# Altium footprint library Seeed-Connector.PCBLIB: 44 footprints (part 3 of 3)
Each footprint in its own frame and in the unit in brackets; x right, y up, seen from the top. Pads: shape width x height; smd on the part's side, far side on the other; paste and mask are expansions set on the pad; w line width, h text height; cw(c..) or ccw(c..) is an arc to the next point about the centre after c.
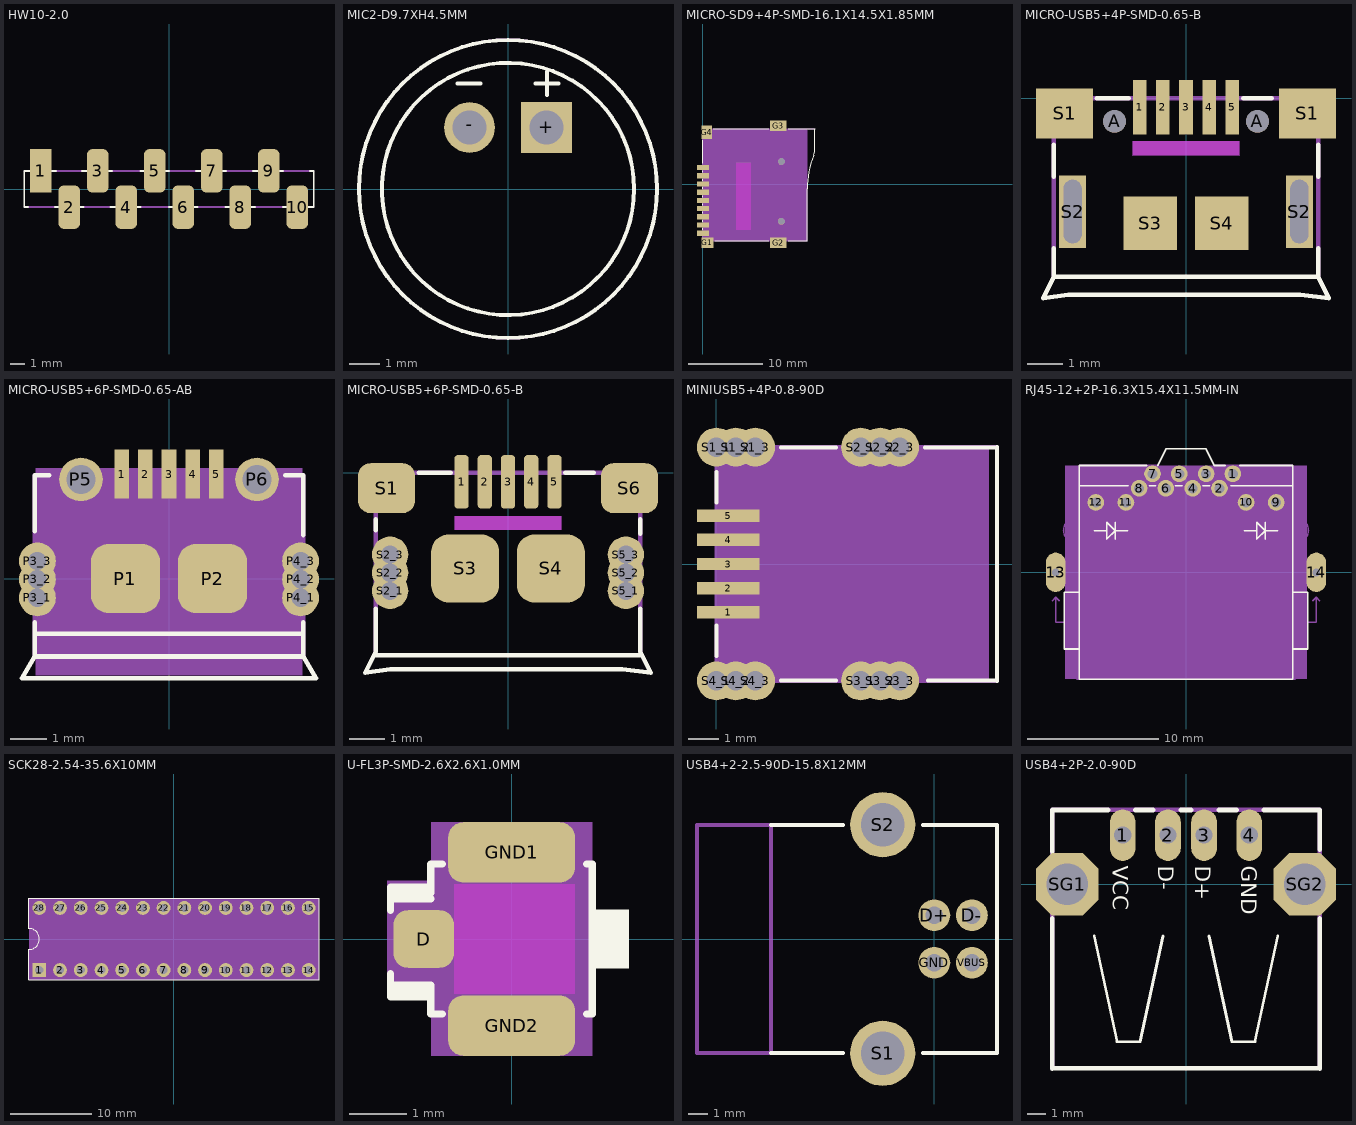
[diagram p2: the footprints below, top view; thin cyan lines are the x and y axes]

## HW10-2.0 [mil]
pads (10):
  rect 60x120 smd: 1(-354.33,50)
  rrect50% 60x120 smd: 2(-275.59,-50) 3(-196.85,50) 4(-118.11,-50) 5(-39.37,50) 6(39.37,-50) 7(118.11,50) 8(196.85,-50) 9(275.59,50) 10(354.33,-50)
Top Overlay:
  lines w5: -389.76,-50 -400,-50 -400,50 -311.81,50 ; -314.96,-50 -236.22,-50 ; -240.16,50 -157.48,50 ; -161.42,-50 -78.74,-50 ; -78.74,50 0,50 ; 0,-50 78.74,-50 ; 74.8,50 157.48,50 ; 155.51,-50 238.19,-50 ; 232.28,50 314.96,50 ; 314.96,-50 400,-50 400,50 389.76,50
Mechanical 16:
  lines w5: -400,-50 400,-50 ; -400,50 400,50

## MIC2-D9.7XH4.5MM [mm]
pads (2):
  rect 1.65x1.65 hole 1.1: +(1.25,2)
  round 1.65 hole 1.1: -(-1.25,2)
Top Overlay:
  circle w0.127: c0,0 r4.85
  circle w0.127: c0,0 r4.103
  lines w0.127: -1.651,3.429 -0.889,3.429 ; 0.889,3.429 1.651,3.429 ; 1.27,3.048 1.27,3.81
Mechanical 27:
  circle w0: c0,0 r4.879

## MICRO-SD9+4P-SMD-16.1X14.5X1.85MM [mm]
pads (15):
  rect 1.6x0.7 smd: 1(0,2.25) 2(0,1.15) 3(0,0.05) 4(0,-1.05) 5(0,-2.15) 6(0,-3.25) 7(0,-4.35) 8(0,-5.45) 9(0,-6.55)
  round 0.9 hole 0.9: 1(10.5,-4.95) 1(10.5,3.05)
  rect 1.6x1.4 smd: G1(0.6,-7.85)
  rect 2.2x1.4 smd: G2(10.1,-7.85) G3(10.1,7.85)
  rect 1.4x1.8 smd: G4(0.5,6.95)
Top Overlay:
  lines w0.127: 0,-6.1 0,-5.9 ; 0,-5 0,-4.8 ; 0,-3.9 0,-3.7 ; 0,-2.8 0,-2.6 ; 0,-1.7 0,-1.5 ; 0,-0.6 0,-0.4 ; 0,0.5 0,0.7 ; 0,1.6 0,1.8 ; 0,2.8 0,5.9 ; 1.4,7.43 8.8,7.43 ; 1.6,-7.56 8.8,-7.56 ; 11.4,-7.56 13.97,-7.56 ; 11.4,7.43 15,7.43 ; 13.97,-7.557 13.97,-0.623 cw(c26.67,-0.623) 14.802,3.898 ccw(c12.177,4.898) 14.986,4.898 14.986,7.429
Mechanical 8 keep-out:
  rectangle: 4.4,-6.1 6.4,2.9
Mechanical 16:
  lines w0.127: 13.97,-7.557 0,-7.557 0,6.032 1.143,6.032 1.143,7.429 14.986,7.429
Mechanical 27:
  rectangle: 0,-7.493 13.97,7.366

## MICRO-USB5+4P-SMD-0.65-B [mil]
pads (13):
  rect 15x60 smd: 1(-51.18,-9.84) 2(-25.59,-9.84) 3(0,-9.84) 4(25.59,-9.84) 5(51.18,-9.84)
  round 25 hole 25: A(-78.74,-25.59) A(78.74,-25.59)
  rect 62.99x55 smd: S1(-133.86,-16.81) S1(133.86,-16.81)
  rect 30x80 hole 20 slot 70 at 90 deg: S2(-125,-125) S2(125,-125)
  rect 59.06x59.06 smd: S3(-39.37,-137.8) S4(39.37,-137.8)
Top Overlay:
  lines w5: -145.67,-165.35 -145.67,-196.85 ; -145.67,-86.61 -145.67,-51.18 ; -98.43,0 -62.99,0 ; 62.99,0 94.49,0 ; 145.67,-165.35 145.67,-196.85 ; 145.67,-86.61 145.67,-51.18 ; -145.67,-196.85 145.67,-196.85 ; -145.67,-196.85 -157.48,-220.47 -129.92,-216.54 125.98,-216.54 157.48,-220.47 145.67,-196.85
Mechanical 8 keep-out:
  rectangle: -59.06,-62.99 59.06,-47.24
Mechanical 16:
  lines w5: -145.67,-196.85 -145.67,0 145.67,0 145.67,-196.85
3D body "User Library-10104110.STEP": height 107.33, standoff -11.91, extent -159.02,-216.89 159.04,2.16

## MICRO-USB5+6P-SMD-0.65-AB [mil]
pads (15):
  rect 15.75x53.15 smd: 1(-51.18,113.19) 2(-25.59,113.19) 3(0,113.19) 4(25.59,113.19) 5(51.18,113.19)
  rrect50% 74.8x74.8 smd: P1(-47.24,0) P2(47.24,0)
  round 40 hole 20: P3_1(-142.72,-21) P3_2(-142.72,-1) P3_3(-142.72,19) P4_1(142.72,-21) P4_2(142.72,-1) P4_3(142.72,19)
  round 47.25 hole 31.5: P5(-95.47,107.48) P6(95.47,107.48)
Top Overlay:
  lines w5: -145.67,-82.68 -145.67,-47.24 ; -145.67,51.18 -145.67,112.2 -129.92,112.2 ; -145,-60 145,-60 ; 125.98,112.2 145.67,112.2 145.67,47.24 ; 145.67,-82.68 145.67,-47.24 ; -159.45,-108.27 159.45,-108.27 145.67,-84.65 -145.67,-84.65 -159.45,-108.27
Mechanical 16:
  lines w5: -145.67,-84.65 -145.67,112.2 145.67,112.2 145.67,-84.65
Mechanical 27:
  rectangle: -145,-105 145,120

## MICRO-USB5+6P-SMD-0.65-B [mil]
pads (15):
  rrect50% 15.75x59.06 smd: 1(-51.18,-9.84) 2(-25.59,-9.84) 3(0,-9.84) 4(25.59,-9.84) 5(51.18,-9.84)
  rrect50% 62.99x55.12 smd: S1(-133.86,-16.81) S6(133.86,-16.81)
  round 40 hole 20: S2_1(-129.92,-130) S2_2(-129.92,-110) S2_3(-129.92,-90) S5_1(129.92,-130) S5_2(129.92,-110) S5_3(129.92,-90)
  rrect50% 74.8x74.8 smd: S3(-47.24,-105.32) S4(47.24,-105.32)
Top Overlay:
  lines w5: -145.67,-200.79 145.67,-200.79 ; -145.67,-149.61 -145.67,-196.85 -157.48,-220.47 -129.92,-216.54 125.98,-216.54 157.48,-220.47 145.67,-196.85 145.67,-149.61 ; -145.67,-62.99 -145.67,-51.18 ; -98.43,0 -62.99,0 ; 62.99,0 94.49,0 ; 145.67,-66.93 145.67,-51.18
Mechanical 8 keep-out:
  rectangle: -59.06,-62.99 59.06,-47.24
Mechanical 16:
  lines w5: -145.67,-196.85 -145.67,0 145.67,0 145.67,-196.85

## MINIUSB5+4P-0.8-90D [mil]
pads (17):
  rect 80x16 smd: 1(15,-62) 2(15,-31) 3(15,0) 4(15,31) 5(15,62)
  round 50 hole 25: S1_1(0,150) S1_2(25,150) S1_3(50,150) S2_1(185,150) S2_2(210,150) S2_3(235,150) S3_1(185,-150) S3_2(210,-150) S3_3(235,-150) S4_1(0,-150) S4_2(25,-150) S4_3(50,-150)
Top Overlay:
  lines w5: 0,-118.11 0,-78.74 ; 0,78.74 0,118.11 ; 82.68,-149.61 153.54,-149.61 ; 82.68,149.61 153.54,149.61 ; 267.72,149.61 358.27,149.61 ; 271.65,-149.61 358.27,-149.61 ; 360,-150 360,150
Mechanical 16:
  lines w5: 360,-150 0,-150 0,150 360,150
Mechanical 27:
  rectangle: 0,-150 350,150

## RJ45-12+2P-16.3X15.4X11.5MM-IN [mil]
pads (14):
  round 50 hole 30: 1(140.55,295.28) 2(100.39,251.97) 3(60.24,295.28) 4(20.08,251.97) 5(-20.08,295.28) 6(-60.24,251.97) 7(-100.39,295.28) 8(-140.55,251.97) 9(270.08,209.45) 10(179.92,209.45) 11(-179.92,209.45) 12(-270.08,209.45)
  oval 59.06x118.12 hole 23.62: 13(-390.55,0) 14(390.55,0)
Top Overlay:
  lines w5: -320,320 -320,-60 ; -318.9,259.84 -173.23,259.84 ; -318.9,320.08 -118.11,320.08 ; -275,125 -237.5,125 ; -212.5,100 -212.5,125 ; -212.5,150 -212.5,125 ; -175,125 -212.5,125 ; -110.24,259.84 -90.55,259.84 ; -85,320 -60,370 60,370 85,320 ; -31.5,259.84 -11.81,259.84 ; 51.18,259.84 70.87,259.84 ; 86.61,320.08 118.11,320.08 ; 133.86,259.84 318.9,259.84 ; 161.42,320.08 318.9,320.08 ; 175,125 212.5,125 ; 237.5,100 237.5,125 ; 237.5,150 237.5,125 ; 275,125 237.5,125 ; 320,320 320,-60 ; -320,-230 -320,-320 320,-320 320,-230 ; -320,-230 -320,-60 ; -320,-230 -365,-230 -365,-60 -320,-60 ; -237.5,125 -237.5,150 -212.5,125 ; -237.5,125 -237.5,100 -212.5,125 ; 212.5,125 212.5,150 237.5,125 ; 212.5,125 212.5,100 237.5,125 ; 320,-230 320,-60 ; 320,-230 365,-230 365,-60 320,-60
Mechanical 1:
  lines w1: -327.95,-320.08 -327.95,86.61 cw(c-327.75,125.78) -366.93,125.98 -366.93,126.08 cw(c-327.65,126.08) -327.65,165.35 327.59,165.35 cw(c327.59,126.01) 366.93,126.01 ; -327.76,-320.08 327.76,-320.08 ; 327.95,-320.08 327.95,85.69 ccw(c327.3,125.33) 366.93,125.98 ; 366.93,125.98 366.93,126.01
  lines w5: -290,-100 -315,-75 ; -290,-50 -315,-75 ; -230,-75 -315,-75 ; -25,-280 0,-305 ; -25,130 0,155 ; 0,-120 0,-305 ; 0,-30 0,155 ; 25,-280 0,-305 ; 25,130 0,155 ; 245,-75 320,-75 ; 295,-100 320,-75 ; 295,-50 320,-75
  text "PCB edge or slotted" at -220,-85 h23.8
Mechanical 11:
  lines w5: -400,-85 -390,-75 ; -380,-85 -390,-75 ; 380,-85 390,-75 ; 400,-85 390,-75 ; -390,-75 -390,-150 390,-150 390,-75
  lines w27.56: -390.55,-35.43 -390.55,35.43 ; 390.55,-35.43 390.55,35.43
  text "Slot Drills with copper" at -300,-200 h49.6
Mechanical 14:
  lines w5: -366.93,125.98 ccw(c-327.56,125.98) -327.56,86.61 -327.56,-320 327.56,-320 327.56,86.61 ccw(c327.56,125.98) 366.93,125.98 ccw(c327.56,125.98) 327.56,165.35 -327.56,165.35 ccw(c-327.56,125.98) -366.93,125.98
Mechanical 16:
  lines w5: -320,260 320,260 ; -320,320 -85,320 ; 85,320 320,320
Mechanical 27:
  rectangle: -363.19,-320 363.19,320

## SCK28-2.54-35.6X10MM [mm]
pads (28):
  rect 1.7x1.7 hole 1: 1(-16.51,-3.81)
  round 1.7 hole 1: 2(-13.97,-3.81) 3(-11.43,-3.81) 4(-8.89,-3.81) 5(-6.35,-3.81) 6(-3.81,-3.81) 7(-1.27,-3.81) 8(1.27,-3.81) 9(3.81,-3.81) 10(6.35,-3.81) 11(8.89,-3.81) 12(11.43,-3.81) 13(13.97,-3.81) 14(16.51,-3.81) 15(16.51,3.81) 16(13.97,3.81) 17(11.43,3.81) 18(8.89,3.81) 19(6.35,3.81) 20(3.81,3.81) 21(1.27,3.81) 22(-1.27,3.81) 23(-3.81,3.81) 24(-6.35,3.81) 25(-8.89,3.81) 26(-11.43,3.81) 27(-13.97,3.81) 28(-16.51,3.81)
Top Overlay:
  lines w0.127: -17.78,-5 -17.78,-1.27 ccw(c-17.755,-0.025) -16.51,-0.05 -16.51,0.05 ccw(c-17.755,0.025) -17.78,1.27 -17.78,5 17.78,5 17.78,-5 -17.78,-5
Mechanical 27:
  rectangle: -17.78,-5 17.78,5

## U-FL3P-SMD-2.6X2.6X1.0MM [mil]
pads (3):
  rrect50% 41.34x39.37 smd: D(-60,0)
  rrect50% 86.61x41.34 smd: GND1(0,59.06) GND2(0,-59.06)
Top Overlay:
  rectangle: 55,-20 80,20
  lines w5: -82.68,-23.62 -82.68,-31.5 ; -82.68,19.69 -82.68,27.56 ; -55.12,27.56 -82.68,27.56 ; -47.24,-51.18 -55.12,-51.18 -55.12,-39.37 ; -47.24,51.18 -55.12,51.18 -55.12,35.43 ; -35.43,51.18 -35.43,59.06 ; 51.18,-51.18 55.12,-51.18 ; 51.18,51.18 55.12,51.18 ; 55,-51.18 55,51.18 ; -82.68,-35.43 -82.68,-39.37 -55.12,-39.37 ; -82.68,-35.43 -82.68,-31.5 ; -82.68,-35.43 -55.12,-35.43 ; -82.68,-31.5 -55.12,-31.5 -55.12,-35.43 ; -82.68,27.56 -82.68,31.5 ; -82.68,31.5 -82.68,35.43 -55.12,35.43 ; -82.68,31.5 -55.12,31.5 -55.12,35.43 ; -55.12,-39.37 -55.12,-35.43
Mechanical 8 keep-out:
  rectangle: -39.37,-37.4 43.31,37.4
Mechanical 16:
  rectangle: -85,-40 -55,40
  lines w5: -55,-30 -55,-51.18 -35.43,-51.18 ; -55,30 -55,51.18 -35.43,51.18 35.43,51.18 ; -35.43,59.06 35.43,59.06 35.43,51.18 ; 55,-51.18 35.43,-51.18 ; 55,51.18 35.43,51.18 ; -35.43,-51.18 35.43,-51.18 ; -35.43,-51.18 -35.43,-59.06 35.43,-59.06 35.43,-51.18
Mechanical 27:
  rectangle: -55,-80 55,80

## USB4+2-2.5-90D-15.8X12MM [mil]
pads (6):
  round 66 hole 36: D+(0,49.21) D-(78,49.21) GND(0,-49.21) VBUS(78,-49.21)
  round 135 hole 90: S1(-107,-237) S2(-107,237)
Top Overlay:
  lines w8: -338.58,-236.22 -188.98,-236.22 ; -338.58,236.22 -188.98,236.22 ; -23.62,-236.22 129.92,-236.22 129.92,236.22 -23.62,236.22
Mechanical 16:
  lines w8: -492.13,-236.22 -338.58,-236.22 -338.58,236.22 -492.13,236.22 -492.13,-236.22

## USB4+2P-2.0-90D [mm]
pads (6):
  oval 1.425x2.85 hole 0.95: 1(-3.5,2.71) 2(-1,2.71) 3(1,2.71) 4(3.5,2.71)
  oct 3.45x3.45 hole 2.3: SG1(-6.57,0) SG2(6.57,0)
Top Overlay:
  lines w0.152: -5.08,-2.87 -3.81,-8.72 -2.54,-8.72 -1.27,-2.87 ; 1.27,-2.87 2.54,-8.72 3.81,-8.72 5.08,-2.87
  lines w0.254: -7.4,-10.2 -7.4,-1.9 ; -7.4,-10.19 7.4,-10.19 ; -7.4,1.8 -7.4,4.1 -4.3,4.1 ; -2.8,4.1 -1.8,4.1 ; -0.3,4.1 0.3,4.1 ; 1.8,4.1 2.8,4.1 ; 4.3,4.1 7.4,4.1 7.4,1.9 ; 7.4,-10.2 7.4,-1.9
  text "VCC" at -4.064,1.016 h0.86
  text "D-" at -1.524,1.016 h0.86
  text "D+" at 0.508,1.016 h0.86
  text "GND" at 3.048,1.016 h0.86
Mechanical 16:
  lines w0.254: -7.4,-10.19 -7.4,4.11 7.4,4.11 7.4,-10.19